# EAGLE library part MAX14852 (library Main-board)
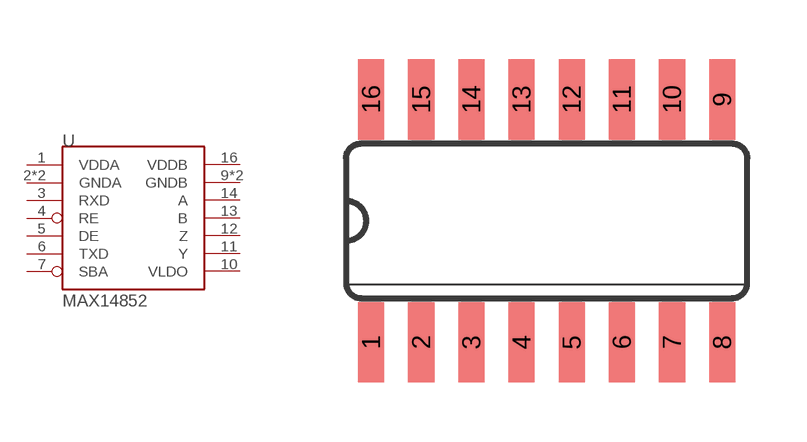
[diagram p4: symbol with the pads of SO16; footprint SO16]

Designator prefix -

## MAX14852  [SO16]
1  VDDA
2  GNDA
3  RXD
4  RE
5  DE
6  TXD
7  SBA
8  GNDA
9  GNDB
10  VLDO
11  Y
12  Z
13  B
14  A
15  GNDB
16  VDDB

## Footprint SO16 (pad centres in mm)
Small Outline package 150 mil
smd 0.66 x 2.032: 1 -4.445,-3.073; 2 -3.175,-3.073; 3 -1.905,-3.073; 4 -0.635,-3.073; 5 0.635,-3.073; 6 1.905,-3.073; 7 3.175,-3.073; 8 4.445,-3.073; 9 4.445,3.073; 10 3.175,3.073; 11 1.905,3.073; 12 0.635,3.073; 13 -0.635,3.073; 14 -1.905,3.073; 15 -3.175,3.073; 16 -4.445,3.073